# EAGLE library part RELAY_DPDT_ASX (library wheat)
Relay, DPDT low signal Panasonic ASX
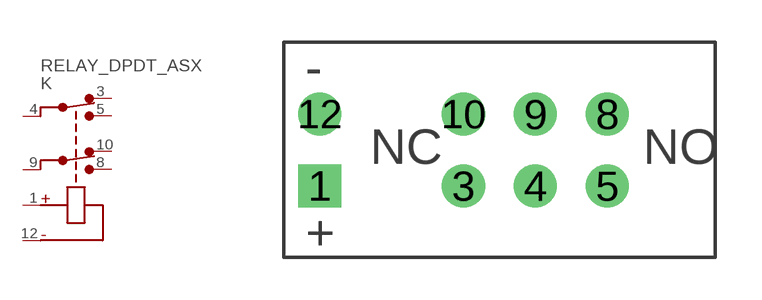
[diagram p121: symbol with the pads of RELAY_ASX; footprint RELAY_ASX]

Designator prefix K

## RELAY_DPDT_ASX  [RELAY_ASX]
1  C+  pas
3  NC1  pas
4  COM1  pas
5  NO1  pas
8  NO2  pas
9  COM2  pas
10  NC2  pas
12  C-  pas

## Footprint RELAY_ASX (pad centres in mm)
Relay, DPDT low signal Panasonic ASX
drill 1.016 square: 1 -6.35,-1.27
drill 1.016: 3 -1.27,-1.27; 4 1.27,-1.27; 5 3.81,-1.27; 8 3.81,1.27; 9 1.27,1.27; 10 -1.27,1.27; 12 -6.35,1.27